# Altium footprint library PCB - MECHANICAL - KEYSTONE 614.PCBLIB: 1 footprints
Each footprint in its own frame and in the unit in brackets; x right, y up, seen from the top. Pads: shape width x height; smd on the part's side, far side on the other; paste and mask are expansions set on the pad; w line width, h text height; cw(c..) or ccw(c..) is an arc to the next point about the centre after c.
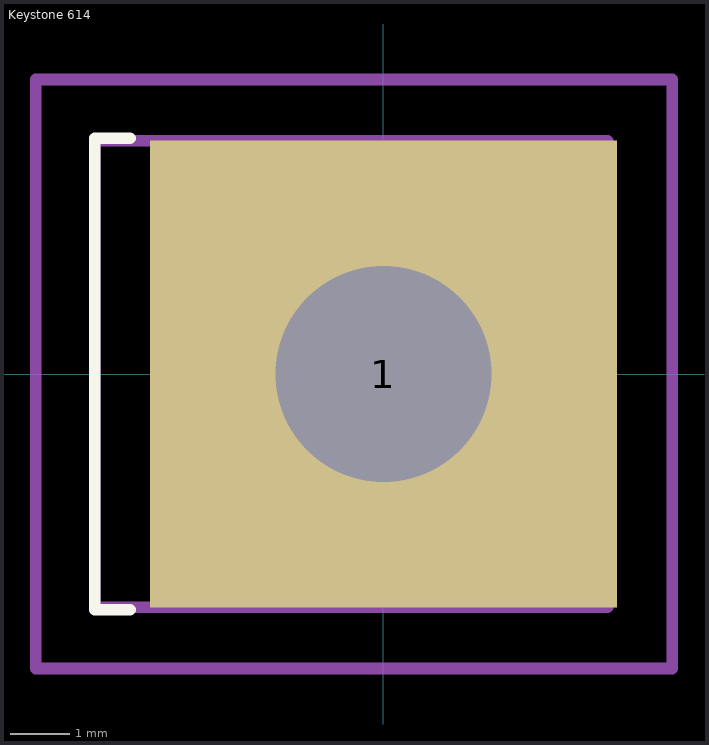
[diagram p0: the footprint, top view; thin cyan lines are the x and y axes]

## Keystone 614 [mm]
height 10.67
pads (1):
  rect 7.92x7.92 hole 3.66: 1(0,0)
Top Overlay:
  lines w0.2: -4.3,-4 -4.9,-4 -4.9,4 -4.3,4
Mechanical 1:
  lines w0.2: -4.9,-3.96 -4.9,3.96 3.8,3.96 3.8,-3.96 -4.9,-3.96
Mechanical 15:
  lines w0.2: -1,0 1,0 ; 0,-1 0,1 ; -5.9,-5 4.9,-5 4.9,5 -5.9,5 -5.9,-5
3D body "Keystone 614.STEP": height 10.66, standoff 0, extent -4.93,-3.96 3.774,3.96